# Altium footprint library MBurstPCB.PcbLib: 25 footprints (part 2 of 2)
Each footprint in its own frame and in the unit in brackets; x right, y up, seen from the top. Pads: shape width x height; smd on the part's side, far side on the other; paste and mask are expansions set on the pad; w line width, h text height; cw(c..) or ccw(c..) is an arc to the next point about the centre after c.
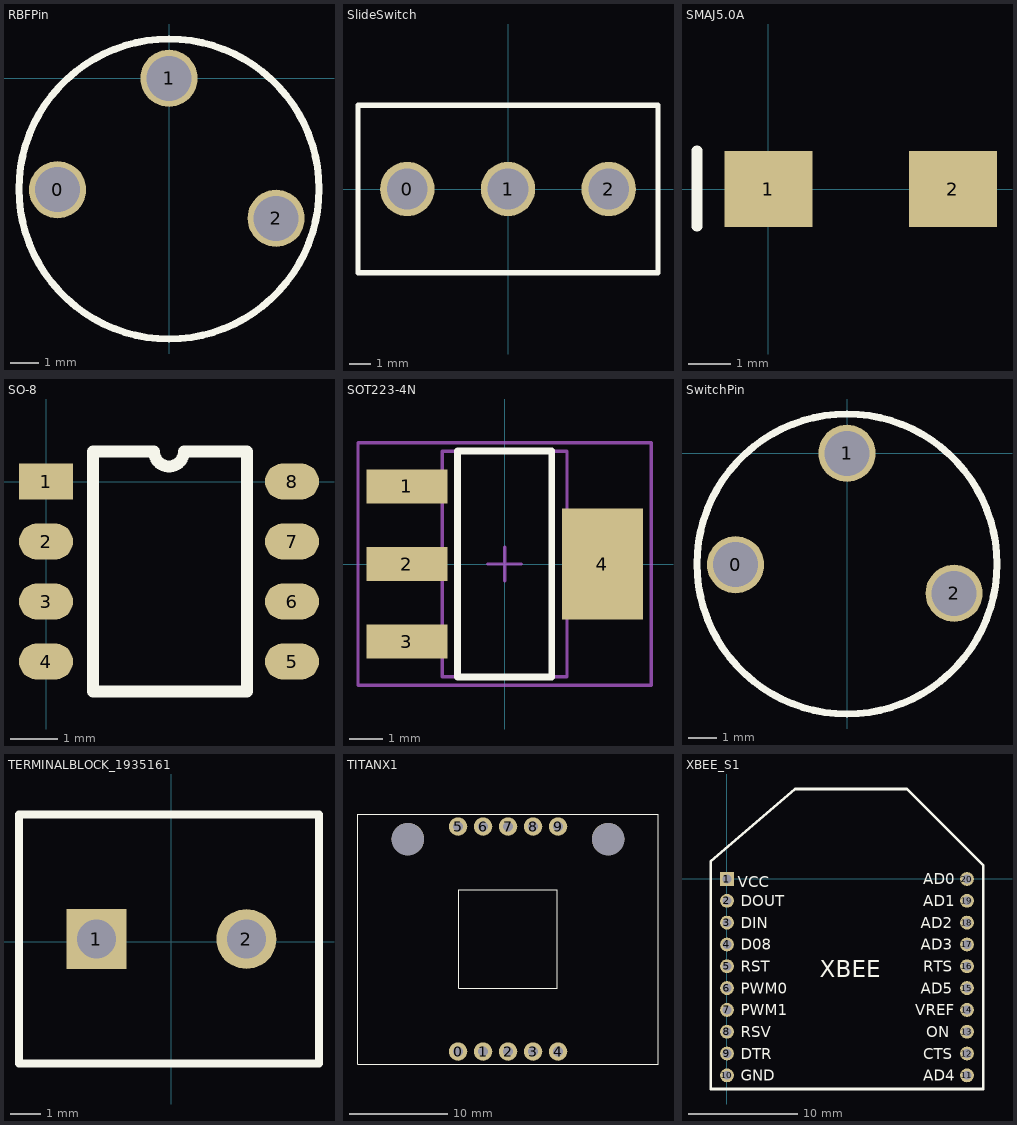
[diagram p1: the footprints below, top view; thin cyan lines are the x and y axes]

## RBFPin [mil] "RBF Pin (Red Pull Pin)"
height 800
pads (3):
  round 80 hole 63: 0(-156,-156) 1(0,0) 2(150,-196)
Top Overlay:
  circle w10: c0,-155 r210

## SlideSwitch [mil]
pads (3):
  round 100 hole 75: 0(-185,0) 1(0,0) 2(185,0)
Top Overlay:
  lines w10: -275.59,-153.54 275.59,-153.54 275.59,153.54 -275.59,153.54 -275.59,-153.54

## SMAJ5.0A [mm]
pads (2):
  rect 2.1x1.8 smd: 1(0,0) 2(4.4,0)
Top Overlay:
  lines w0.254: -1.702,-0.889 -1.702,0.911

## SO-8 [mil]
pads (8):
  rect 45x30 smd: 1(0,0)
  oval 45x30 smd: 2(0,-50) 3(0,-100) 4(0,-150) 5(205,-150) 6(205,-100) 7(205,-50) 8(205,0)
Top Overlay:
  lines w10: 39.37,-175 167.32,-175 167.32,25 115,25 cw(c102.5,25) 90,25 39.37,25 39.37,-175

## SOT223-4N [mm] "SOT223, 4-Leads, Body 6.5x3.5mm, Pitch 2.3mm, Lead Span 7mm, IPC Medium Density"
height 1.8
pads (4):
  rect 2.4x1 smd: 1(-2.9,2.3) 2(-2.9,0) 3(-2.9,-2.3)
  rect 2.4x3.3 smd: 4(2.9,0)
Top Overlay:
  lines w0.2: -1.4,-3.35 1.4,-3.35 1.4,3.35 -1.4,3.35 -1.4,-3.35
Mechanical 13:
  lines w0.1: -1.85,-3.35 1.85,-3.35 1.85,3.35 -1.85,3.35 -1.85,-3.35
Mechanical 15:
  lines w0.1: -0.5,0 0.5,0 ; 0,-0.5 0,0.5 ; -4.35,-3.6 4.35,-3.6 4.35,3.6 -4.35,3.6 -4.35,-3.6
3D body: height 1.8, standoff 0, extent -1.85,-3.35 1.85,3.35

## SwitchPin [mil]
pads (3):
  round 80 hole 63: 0(-156,-156) 1(0,0) 2(150,-196)
Top Overlay:
  circle w10: c0,-155 r210

## TERMINALBLOCK_1935161 [mm]
pads (2):
  rect 2x2 hole 1.3: 1(-2.5,0.086)
  round 2 hole 1.3: 2(2.5,0.086)
Top Overlay:
  lines w0.254: -5.08,-4.064 -5.08,4.236 4.92,4.236 4.92,-4.064 -5.08,-4.064
3D body: height 8.41, standoff 0, extent -5.067,-4.166 4.826,4.166

## TITANX1 [mil]
pads (12):
  round 74 hole 40: 0(625.83,-1687.05) 1(725.83,-1687.05) 2(825.83,-1687.05) 3(925.83,-1687.05) 4(1025.83,-1687.05) 5(625.83,-787.05) 6(725.83,-787.05) 7(825.83,-787.05) 8(925.83,-787.05) 9(1025.83,-787.05)
  round 130 hole 130: ""(425.83,-837.05) ""(1225.83,-837.05)
Top Overlay:
  lines w5: 225.83,-1737.05 225.83,-737.05 1425.83,-737.05 1425.83,-1737.05 225.83,-1737.05 ; 628.98,-1433.9 628.98,-1040.2 1022.68,-1040.2 1022.68,-1433.9 628.98,-1433.9

## XBEE_S1 [mm] "XBee S1 Footprint STD"
pads (20):
  rect 1.27x1.27 hole 0.8 square: 1(0,0)
  round 1.27 hole 0.8: 2(0,-2) 3(0,-4) 4(0,-6) 5(0,-8) 6(0,-10) 7(0,-12) 8(0,-14) 9(0,-16) 10(0,-18) 11(22,-18) 12(22,-16) 13(22,-14) 14(22,-12) 15(22,-10) 16(22,-8) 17(22,-6) 18(22,-4) 19(22,-2) 20(22,0)
Top Overlay:
  lines w0.254: -1.5,-19.25 23.5,-19.25 23.5,1.25 16.5,8.25 15.07,8.25 6.237,8.25 -1.5,1.594 -1.5,-19.25
  text "XBEE" at 8.5,-9 h1.52
  text "VCC" at 1,-0.75 h1
  text "DIN" at 1.25,-4.5 h1
  text "D08" at 1.25,-6.5 h1
  text "DOUT" at 1.25,-2.5 h1
  text "RST" at 1.25,-8.5 h1
  text "PWM0" at 1.25,-10.5 h1
  text "PWM1" at 1.25,-12.5 h1
  text "RSV" at 1.25,-14.5 h1
  text "DTR" at 1.25,-16.5 h1
  text "GND" at 1.25,-18.5 h1
  text "AD0" at 18,-0.5 h1
  text "AD1" at 18,-2.5 h1
  text "AD2" at 17.75,-4.5 h1
  text "AD3" at 17.75,-6.5 h1
  text "RTS" at 18,-8.5 h1
  text "AD5" at 17.75,-10.5 h1
  text "VREF" at 17.25,-12.5 h1
  text "ON" at 18.25,-14.5 h1
  text "CTS" at 18,-16.5 h1
  text "AD4" at 18,-18.5 h1